# EAGLE library part TMP006 (library hijack)
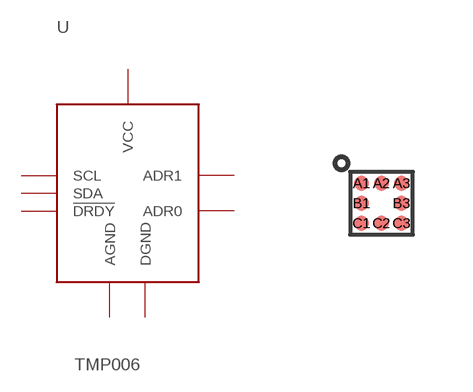
[diagram p5: symbol with the pads of YZF(S-XBGA-N8); footprint YZF(S-XBGA-N8)]

Designator prefix U

## TMP006  [YZF(S-XBGA-N8)]
A1  DGND
A2  AGND
A3  VCC
B1  ADR1
B3  SCL
C1  ADR0
C2  !DRDY!
C3  SDA

## Footprint YZF(S-XBGA-N8) (pad centres in mm)
smd 0.38 x 0.38: A1 -0.5,0.5; A2 0,0.5; A3 0.5,0.5; B1 -0.5,0; B3 0.5,0; C1 -0.5,-0.5; C2 0,-0.5; C3 0.5,-0.5